# Altium footprint library Connectors.PcbLib: 2 footprints
Each footprint in its own frame and in the unit in brackets; x right, y up, seen from the top. Pads: shape width x height; smd on the part's side, far side on the other; paste and mask are expansions set on the pad; w line width, h text height; cw(c..) or ccw(c..) is an arc to the next point about the centre after c.
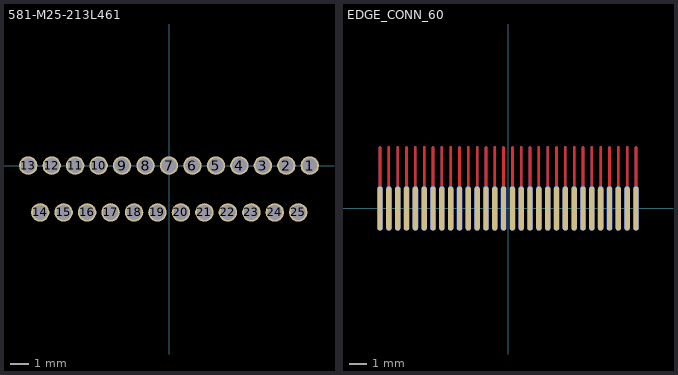
[diagram p0: the footprints below, top view; thin cyan lines are the x and y axes]

## 581-M25-213L461 [mm] "CONN MICRO-D FEMALE 25P RA"
pads (25):
  round 1 hole 0.8: 1(7.62,0) 2(6.35,0) 3(5.08,0) 4(3.81,0) 5(2.54,0) 6(1.27,0) 7(0,0) 8(-1.27,0) 9(-2.54,0) 10(-3.81,0) 11(-5.08,0) 12(-6.35,0) 13(-7.62,0) 14(-6.973,-2.54) 15(-5.703,-2.54) 16(-4.433,-2.54) 17(-3.163,-2.54) 18(-1.893,-2.54) 19(-0.623,-2.54) 20(0.647,-2.54) 21(1.917,-2.54) 22(3.187,-2.54) 23(4.457,-2.54) 24(5.727,-2.54) 25(6.997,-2.54)
3D body "581-M25-213L461.STEP": height 7.9, standoff -2.7, extent -15.07,-14.668 15.03,0.882

## EDGE_CONN_60 [mm]
pads (60):
  oval 0.3x2.5 smd far side: 1(-7.25,0) 3(-6.75,0) 5(-6.25,0) 7(-5.75,0) 9(-5.25,0) 11(-4.75,0) 13(-4.25,0) 15(-3.75,0) 17(-3.25,0) 19(-2.75,0) 21(-2.25,0) 23(-1.75,0) 25(-1.25,0) 27(-0.75,0) 29(-0.25,0) 31(0.25,0) 33(0.75,0) 35(1.25,0) 37(1.75,0) 39(2.25,0) 41(2.75,0) 43(3.25,0) 45(3.75,0) 47(4.25,0) 49(4.75,0) 51(5.25,0) 53(5.75,0) 55(6.25,0) 57(6.75,0) 59(7.25,0)
  oval 0.3x2.5 smd: 2(-7.25,0) 4(-6.75,0) 6(-6.25,0) 8(-5.75,0) 10(-5.25,0) 12(-4.75,0) 14(-4.25,0) 16(-3.75,0) 18(-3.25,0) 20(-2.75,0) 22(-2.25,0) 24(-1.75,0) 26(-1.25,0) 28(-0.75,0) 30(-0.25,0) 32(0.25,0) 34(0.75,0) 36(1.25,0) 38(1.75,0) 40(2.25,0) 42(2.75,0) 44(3.25,0) 46(3.75,0) 48(4.25,0) 50(4.75,0) 52(5.25,0) 54(5.75,0) 56(6.25,0) 58(6.75,0) 60(7.25,0)
Top Layer:
  lines w0.152: -7.25,0 -7.25,3.45 ; -6.75,0 -6.75,3.45 ; -6.25,0 -6.25,3.45 ; -5.75,0 -5.75,3.45 ; -5.25,0 -5.25,3.45 ; -4.75,0 -4.75,3.45 ; -4.25,0 -4.25,3.45 ; -3.75,0 -3.75,3.45 ; -3.25,0 -3.25,3.45 ; -2.75,0 -2.75,3.45 ; -2.25,0 -2.25,3.45 ; -1.75,0 -1.75,3.45 ; -1.25,0 -1.25,3.45 ; -0.75,0 -0.75,3.45 ; -0.25,0 -0.25,3.45 ; 0.25,0 0.25,3.45 ; 0.75,0 0.75,3.45 ; 1.25,0 1.25,3.45 ; 1.75,0 1.75,3.45 ; 2.25,0 2.25,3.45 ; 2.75,0 2.75,3.45 ; 3.25,0 3.25,3.45 ; 3.75,0 3.75,3.45 ; 4.25,0 4.25,3.45 ; 4.75,0 4.75,3.45 ; 5.25,0 5.25,3.45 ; 5.75,0 5.75,3.45 ; 6.25,0 6.25,3.45 ; 6.75,0 6.75,3.45 ; 7.25,0 7.25,3.45
Bottom Layer:
  lines w0.152: -7.25,0 -7.25,3.45 ; -6.75,0 -6.75,3.45 ; -6.25,0 -6.25,3.45 ; -5.75,0 -5.75,3.45 ; -5.25,0 -5.25,3.45 ; -4.75,0 -4.75,3.45 ; -4.25,0 -4.25,3.45 ; -3.75,0 -3.75,3.45 ; -3.25,0 -3.25,3.45 ; -2.75,0 -2.75,3.45 ; -2.25,0 -2.25,3.45 ; -1.75,0 -1.75,3.45 ; -1.25,0 -1.25,3.45 ; -0.75,0 -0.75,3.45 ; -0.25,0 -0.25,3.45 ; 0.25,0 0.25,3.45 ; 0.75,0 0.75,3.45 ; 1.25,0 1.25,3.45 ; 1.75,0 1.75,3.45 ; 2.25,0 2.25,3.45 ; 2.75,0 2.75,3.45 ; 3.25,0 3.25,3.45 ; 3.75,0 3.75,3.45 ; 4.25,0 4.25,3.45 ; 4.75,0 4.75,3.45 ; 5.25,0 5.25,3.45 ; 5.75,0 5.75,3.45 ; 6.25,0 6.25,3.45 ; 6.75,0 6.75,3.45 ; 7.25,0 7.25,3.45